# Altium schematic symbol library JST-XH TH 2.50mm 4-pos Straight.Schlib: 1 symbol
Pins are listed as number, name and electrical type; pins without a type are passive.

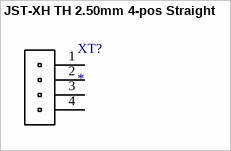
[diagram p0: symbol JST-XH TH 2.50mm 4-pos Straight]

## JST-XH TH 2.50mm 4-pos Straight
designator XT?
XH Header Male Pin 0.098"(2.50mm) 4 Through Hole,P=2.5mm Wire To Board / Wire To Wire Connector RoHS; ComponentLink1Description: LCSC - JST B4B-XH-AM; ComponentLink1URL: https://lcsc.com/product-detail/Wire-To-Board-Wire-To-Wire-Connector_JST-Sales-America-B4B-XH-AM-LF-SN_C161871.html/?href=jlc-SMT; LCSC Part #: C161871; JLCPCB Part Type: Extended
footprint JST-XH TH 2.5mm 4-pos
pins: 1, 2, 3, 4